# Altium footprint library PcbLib1.PcbLib: 35 footprints (part 2 of 3)
Each footprint in its own frame and in the unit in brackets; x right, y up, seen from the top. Pads: shape width x height; smd on the part's side, far side on the other; paste and mask are expansions set on the pad; w line width, h text height; cw(c..) or ccw(c..) is an arc to the next point about the centre after c.
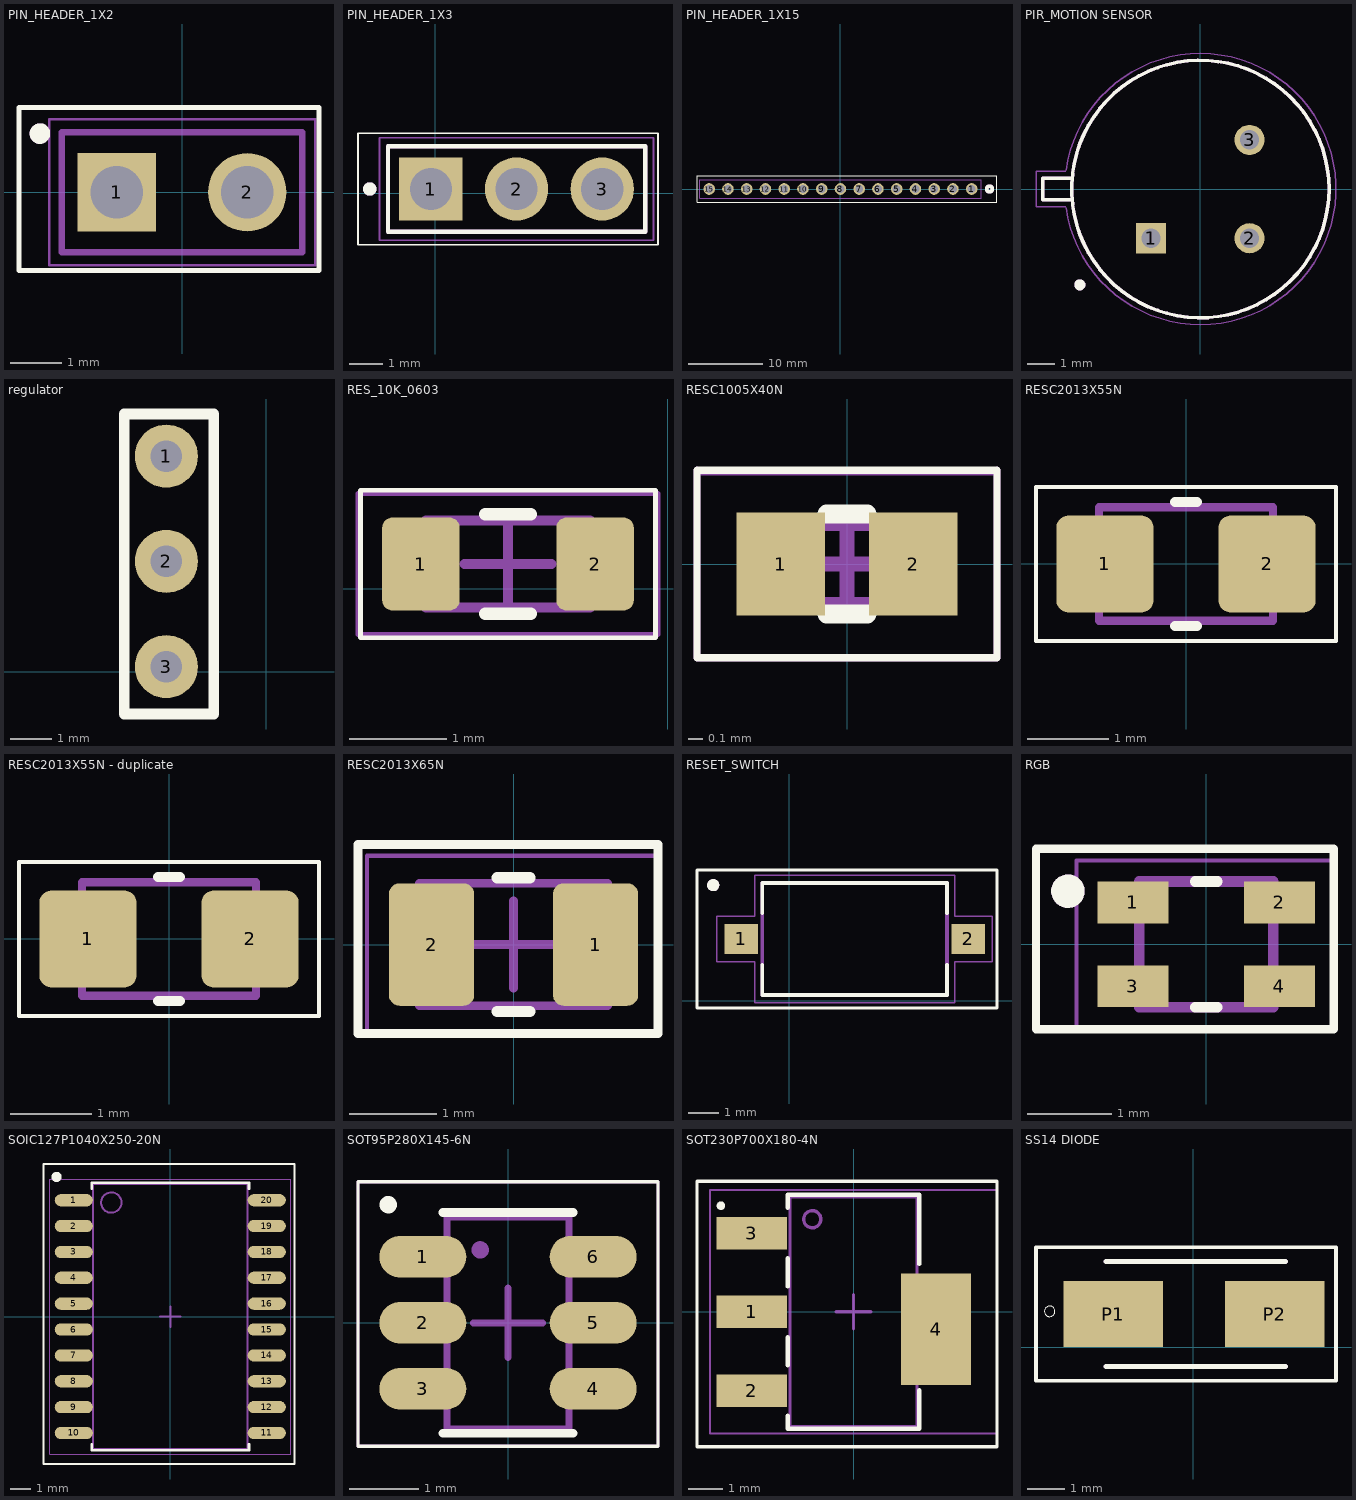
[diagram p1: the footprints below, top view; thin cyan lines are the x and y axes]

## PIN_HEADER_1X2 [mm]
pads (2):
  rect 1.53x1.53 / inner round 1.53 / far side rect 1.53x1.53 hole 1.02: 1(-1.27,0)
  round 1.53 hole 1.02: 2(1.27,0)
Top Overlay:
  circle w0.2: c-2.767,1.143 r0.1
  lines w0.1: -3.175,-1.524 -3.175,1.651 2.667,1.651 2.667,-1.524 -3.175,-1.524
Top 3D Body:
  circle w0.2: c-2.767,1.143 r0.1
  lines w0.127: -2.34,-1.17 2.34,-1.17 2.34,1.17 -2.34,1.17 -2.34,-1.17
Top Courtyard:
  lines w0.05: -2.59,-1.42 2.59,-1.42 2.59,1.42 -2.59,1.42 -2.59,-1.42
3D body "step_temp.STEP": height 5.33, standoff -5.84, extent -2.337,-1.168 2.337,1.168

## PIN_HEADER_1X3 [mm]
pads (3):
  rect 1.875x1.875 / inner round 1.875 / far side rect 1.875x1.875 hole 1.25: 1(-0.127,0.127)
  round 1.875 hole 1.25: 2(2.413,0.127) 3(4.953,0.127)
Top Overlay:
  circle w0.2: c-1.937,0.127 r0.1
  lines w0.05: -2.286,-1.524 -2.286,1.778 6.35,1.778 6.604,1.778 6.604,-1.524 -2.286,-1.524
  lines w0.127: -1.397,-1.143 -1.397,1.397 6.223,1.397 6.223,-1.143 -1.397,-1.143
Top 3D Body:
  circle w0.2: c-1.937,0.127 r0.1
  lines w0.127: -1.397,-1.143 -1.397,1.397 6.223,1.397 6.223,-1.143 -1.397,-1.143
Top Courtyard:
  lines w0.05: -1.647,-1.393 -1.647,1.647 6.473,1.647 6.473,-1.393 -1.647,-1.393
3D body "step_temp.STEP": height 7.27, standoff -4.27, extent -1.397,-1.143 6.223,1.397

## PIN_HEADER_1X15 [mil]
pads (15):
  round 62 hole 42: 1(700,0) 2(600,0) 3(500,0) 4(400,0) 5(300,0) 6(200,0) 7(100,0) 8(0,0) 9(-100,0) 10(-200,0) 11(-300,0) 12(-400,0) 13(-500,0) 14(-600,0) 15(-700,0)
Top Overlay:
  lines w3.94: -765,-70 835,-70 835,70 -765,70 -765,-70
  lines w20: 780,0 ccw(c795,0) 810,0 ccw(c795,0) 780,0
Bottom Overlay:
  lines w20: 780,0 ccw(c795,0) 810,0 ccw(c795,0) 780,0
Top 3D Body:
  lines w6: -750,-49 750,-49 750,49 -750,49 -750,-49
  lines w20: 780,0 ccw(c795,0) 810,0 ccw(c795,0) 809.88,-1.86

## PIR_MOTION SENSOR [mm]
pads (3):
  rect 1.1x1.1 hole 0.7: 1(-1.796,-1.796)
  round 1.1 hole 0.7: 2(1.796,-1.796) 3(1.796,1.796)
Top Overlay:
  circle w0.2: c-4.4,-3.5 r0.1
  circle w0.127: c0,0 r4.7
  lines w0.127: -4.693,-0.4 -5.75,-0.4 -5.75,0.4 -4.693,0.4
Top 3D Body:
  circle w0.2: c-4.4,-3.5 r0.1
  circle w0.127: c0,0 r4.7
  lines w0.127: -4.693,-0.4 -5.75,-0.4 -5.75,0.4 -4.693,0.4
Top Courtyard:
  lines w0.05: -4.907,-0.65 -6,-0.65 -6,0.65 -4.907,0.65 ; -4.902,-0.688 ccw(c0.001,0.002) 0.001,-4.95 ; -4.902,0.688 cw(c0.001,-0.001) 0.001,4.95 ; 0,-4.95 ccw(c0,0) 0,4.95

## regulator [mil]
pads (3):
  round 60 hole 30: 1(-95,205) 2(-95,105) 3(-95,5)
Top Overlay:
  lines w10: -135,-40 -50,-40 -50,245 -135,245 -135,-40

## RES_10K_0603 [mm]
pads (2):
  rrect25% 0.8x0.96 smd: 1(-2.551,0.254) 2(-0.751,0.254)
Top Overlay:
  lines w0.05: -3.175,-0.508 -3.175,1.016 -0.127,1.016 -0.127,-0.508 -3.175,-0.508
  lines w0.127: -1.888,-0.26 -1.415,-0.26 ; -1.888,0.767 -1.415,0.767
Top Assembly:
  lines w0.1: -2.501,-0.196 -0.801,-0.196 -0.801,0.704 -2.501,0.704 -2.501,-0.196
Top Designator:
  text "R?" at -1.651,0.254 h0.5
Top Courtyard:
  lines w0.05: -3.201,-0.476 -0.101,-0.476 -0.101,0.984 -3.201,0.984 -3.201,-0.476
Top Component Center:
  lines w0.1: -2.101,0.254 -1.201,0.254 ; -1.651,-0.196 -1.651,0.704
3D body "RESC1608X55N.step": height 0.55, standoff 0, extent -2.451,-0.146 -0.851,0.654

## RESC1005X40N [mm] "Chip Resistor, 2-Leads, Body 1.00x0.50mm, IPC Medium Density"
height 0.4
pads (2):
  rect 0.6x0.7 smd: 1(-0.45,0) 2(0.45,0)
Top Overlay:
  lines w0.05: -1.016,-0.635 -1.016,0.635 1.016,0.635 1.016,-0.635 -1.016,-0.635
  lines w0.127: -0.136,-0.339 0.136,-0.339 ; -0.136,0.338 0.136,0.338
Top Assembly:
  lines w0.1: -0.525,-0.275 0.525,-0.275 0.525,0.275 -0.525,0.275 -0.525,-0.275
Top Designator:
  text "R?" at 0,0 h0.5
Top Courtyard:
  lines w0.05: -1.016,0.623 -0.508,0.623 0.508,0.623 1.016,0.623 ; -1.016,0.635 -1.016,-0.635 1.016,-0.635 1.016,0.635
Top Component Center:
  lines w0.1: -0.275,0 0.275,0 ; 0,-0.275 0,0.275
3D body "RESC1005X40N.step": height 0.4, standoff 0, extent -0.492,-0.254 0.508,0.246

## RESC2013X55N [mm] "Chip Resistor, 2-Leads, Body 2.00x1.27mm, IPC Medium Density"
height 0.55
pads (2):
  rrect25% 1.2x1.2 smd: 1(-1,0) 2(1,0)
Top Overlay:
  lines w0.05: -1.85,-0.95 -1.85,0.95 1.85,0.95 1.85,-0.95 -1.85,-0.95
  lines w0.127: -0.136,-0.764 0.136,-0.764 ; -0.136,0.763 0.136,0.763
  text ".Designator" at 0,0.019 h0.1
Top Assembly:
  lines w0.1: -1.075,-0.7 1.075,-0.7 1.075,0.7 -1.075,0.7 -1.075,-0.7
3D body: height 0.55, standoff 0, extent 0.6,-0.638 1,0.637
3D body: height 0.55, standoff 0, extent -1,-0.638 -0.6,0.637
3D body: height 0.55, standoff 0, extent -0.6,-0.638 0.6,0.637

## RESC2013X55N - duplicate [mm] "Chip Resistor, 2-Leads, Body 2.00x1.27mm, IPC Medium Density"
height 0.55
pads (2):
  rrect25% 1.2x1.2 smd: 1(-1,0) 2(1,0)
Top Overlay:
  lines w0.05: -1.85,-0.95 -1.85,0.95 1.85,0.95 1.85,-0.95 -1.85,-0.95
  lines w0.127: -0.136,-0.764 0.136,-0.764 ; -0.136,0.763 0.136,0.763
  text ".Designator" at 0,0.019 h0.1
Top Assembly:
  lines w0.1: -1.075,-0.7 1.075,-0.7 1.075,0.7 -1.075,0.7 -1.075,-0.7
3D body: height 0.55, standoff 0, extent 0.6,-0.638 1,0.637
3D body: height 0.55, standoff 0, extent -1,-0.638 -0.6,0.637
3D body: height 0.55, standoff 0, extent -0.6,-0.638 0.6,0.637

## RESC2013X65N [mm] "Chip Resistor, 2-Leads, Body 2.00x1.27mm, IPC Medium Density"
height 0.65
pads (2):
  rrect25% 0.975x1.4 smd: 1(0.938,0) 2(-0.937,0)
Top Overlay:
  lines w0.1: -1.778,-1.016 -1.778,1.143 1.651,1.143 1.651,-1.016 -1.778,-1.016
  lines w0.127: -0.186,-0.763 0.187,-0.763 ; -0.186,0.764 0.187,0.764
Mechanical 1:
  text "R?" at -1.524,0.762 h0.15
Top Assembly:
  lines w0.1: -1.075,-0.7 -1.075,0.7 1.075,0.7 1.075,-0.7 -1.075,-0.7
Top Courtyard:
  lines w0.05: -1.675,-1.016 1.651,-1.016 1.651,1.016 -1.675,1.016 -1.675,-1.016
Top Component Center:
  lines w0.1: -0.5,0 0.5,0 ; 0,-0.5 0,0.5
3D body: height 0.65, standoff 0, extent -0.6,-0.637 0.6,0.638
3D body: height 0.65, standoff 0, extent -1,-0.637 -0.6,0.638
3D body: height 0.65, standoff 0, extent 0.6,-0.637 1,0.638

## RESET_SWITCH [mm]
pads (2):
  rect 1.1x1 smd: 1(-1.591,2.032) 2(5.909,2.032)
Top Overlay:
  circle w0.2: c-2.513,3.81 r0.1
  lines w0.1: -3.048,-0.254 6.858,-0.254 6.858,4.318 -3.048,4.318 -3.048,-0.254
  lines w0.127: -0.891,1.182 -0.891,0.182 5.209,0.182 5.209,1.182 ; -0.891,2.882 -0.891,3.882 5.209,3.882 5.209,2.882
Top 3D Body:
  circle w0.2: c-2.513,3.81 r0.1
  lines w0.127: -0.891,0.182 -0.891,3.882 5.209,3.882 5.209,0.182 -0.891,0.182
Top Courtyard:
  lines w0.05: -2.391,1.282 -1.141,1.282 -1.141,-0.068 5.459,-0.068 5.459,1.282 6.709,1.282 6.709,2.782 5.459,2.782 5.459,4.132 -1.141,4.132 -1.141,2.782 -2.391,2.782 -2.391,1.282
3D body "step_temp.STEP": height 2.5, standoff -0.05, extent -1.891,0.182 6.209,3.882

## RGB [mm]
pads (4):
  rect 0.85x0.5 smd: 1(-0.875,0.5) 2(0.875,0.5) 3(-0.875,-0.5) 4(0.875,-0.5)
Top Overlay:
  circle w0.2: c-1.651,0.635 r0.1
  lines w0.1: -2.032,-1.016 -2.032,1.143 1.524,1.143 1.524,-1.016 -2.032,-1.016
  lines w0.127: -0.13,-0.75 0.13,-0.75 ; -0.13,0.75 0.13,0.75
Top 3D Body:
  circle w0.2: c-1.651,0.635 r0.1
  lines w0.127: -0.8,-0.75 -0.8,0.75 0.8,0.75 0.8,-0.75 -0.8,-0.75
Top Courtyard:
  lines w0.05: -1.55,-1 -1.55,1 1.55,1 1.55,-1 -1.55,-1

## SOIC127P1040X250-20N [mm] "SOIC, 20-Leads, Body 12.75x7.50mm, Pitch 1.27mm, IPC Medium Density"
height 2.5
pads (20):
  oval 1.875x0.6 smd: 1(-4.737,5.715) 2(-4.737,4.445) 3(-4.737,3.175) 4(-4.737,1.905) 5(-4.737,0.635) 6(-4.737,-0.635) 7(-4.737,-1.905) 8(-4.737,-3.175) 9(-4.737,-4.445) 10(-4.737,-5.715) 11(4.738,-5.715) 12(4.738,-4.445) 13(4.738,-3.175) 14(4.738,-1.905) 15(4.738,-0.635) 16(4.738,0.635) 17(4.738,1.905) 18(4.738,3.175) 19(4.738,4.445) 20(4.738,5.715)
Top Overlay:
  circle w0.25: c-5.588,6.858 r0.125
  lines w0.1: -6.223,-7.239 6.096,-7.239 6.096,7.493 -6.096,7.493 -6.223,7.493 -6.223,-7.239
  lines w0.127: -3.864,-6.278 -3.864,-6.563 3.864,-6.563 3.864,-6.278 ; -3.864,6.278 -3.864,6.563 3.864,6.563 3.864,6.278
Top Assembly:
  circle w0.1: c-2.9,5.6 r0.5
  lines w0.1: -3.8,-6.5 -3.8,6.5 3.8,6.5 3.8,-6.5 -3.8,-6.5
Top Designator:
  text "U?" at 0,0.011 h1
Top Courtyard:
  lines w0.05: -5.925,-6.75 -5.925,6.75 5.925,6.75 5.925,-6.75 -5.925,-6.75
Top Component Center:
  lines w0.1: -0.5,0 0.5,0 ; 0,-0.5 0,0.5
3D body "SOIC127P1040X250-20N.step": height 2.5, standoff 0, extent -5.205,-6.375 5.205,6.375

## SOT95P280X145-6N [mm] "SOT23, 6-Leads, Body 2.93x2.80mm, Pitch 0.95mm, IPC Medium Density"
height 1.45
pads (6):
  oval 1.25x0.6 smd: 1(-1.225,0.95) 2(-1.225,0) 3(-1.225,-0.95) 4(1.225,-0.95) 5(1.225,0) 6(1.225,0.95)
Top Overlay:
  circle w0.125: c-1.725,1.7 r0.062
  lines w0.05: -2.159,-1.778 2.159,-1.778 2.159,2.032 -2.159,2.032 -2.159,-1.778
  lines w0.127: -0.938,-1.588 0.939,-1.588 ; -0.938,1.589 0.939,1.589
Top Assembly:
  circle w0.125: c-0.4,1.05 r0.062
  lines w0.1: -0.875,-1.525 -0.875,1.525 0.875,1.525 0.875,-1.525 -0.875,-1.525
Top Designator:
  text "U?" at 0,0.011 h1
Top Courtyard:
  lines w0.05: -2.159,-1.775 -2.159,2.032 2.159,2.032 2.159,-1.775 -2.159,-1.775
Top Component Center:
  lines w0.1: -0.5,0 0.5,0 ; 0,-0.5 0,0.5
3D body "SOT95P280X145-6N.step": height 1.45, standoff 0, extent -1.6,-1.462 1.6,1.462

## SOT230P700X180-4N [mm] "SOT223, 4-Leads, Body 6.51x7.00mm (avg), Pitch 2.30mm, IPC Medium Density"
height 1.8
pads (4):
  rect 2.05x0.95 smd: 1(-2.975,0) 2(-2.975,-2.3) 3(-2.975,2.3)
  rect 2.05x3.25 smd: 4(2.413,-0.508)
Top Overlay:
  circle w0.125: c-3.875,3.1 r0.062
  lines w0.1: -4.191,3.81 4.191,3.81 4.191,-3.937 -4.572,-3.937 -4.572,3.81 -3.937,3.81
  lines w0.127: -1.919,-3.039 -1.919,-3.418 1.919,-3.418 1.919,-2.286 ; -1.919,-1.562 -1.919,-0.738 ; -1.919,0.738 -1.919,1.562 ; -1.919,3.039 -1.919,3.418 1.919,3.418 1.919,1.397
Top Assembly:
  circle w0.1: c-1.205,2.705 r0.25
  lines w0.1: -1.855,-3.355 1.855,-3.355 1.855,3.355 -1.855,3.355 -1.855,-3.355
Top Courtyard:
  lines w0.05: -4.191,-3.556 4.191,-3.556 4.191,3.556 -4.191,3.556 -4.191,-3.556
Top Component Center:
  lines w0.1: -0.5,0 0.5,0 ; 0,-0.5 0,0.5
3D body: height 1.8, standoff 0.02, extent -1.753,-3.253 1.752,3.253

## SS14 DIODE [mm]
pads (2):
  rect 2.65x1.75 smd paste+0 mask+0.102: P1(-2.127,0.889) P2(2.173,0.889)
Top Overlay:
  circle w0: c-3.826,0.961 r0.141
  lines w0.1: -4.191,-0.889 -4.191,2.667 3.81,2.667 3.81,-0.889 -4.191,-0.889
  lines w0.127: -2.327,-0.511 2.473,-0.511 ; -2.327,2.289 2.473,2.289
Top 3D Body:
  lines w0.127: -2.327,-0.511 2.473,-0.511 ; -2.327,2.289 2.473,2.289
3D body "step_temp.STEP": height 2.5, standoff 0, extent -2.727,-0.473 2.473,2.251